# Altium footprint library FE Relays.PcbLib: 7 footprints
Each footprint in its own frame and in the unit in brackets; x right, y up, seen from the top. Pads: shape width x height; smd on the part's side, far side on the other; paste and mask are expansions set on the pad; w line width, h text height; cw(c..) or ccw(c..) is an arc to the next point about the centre after c.
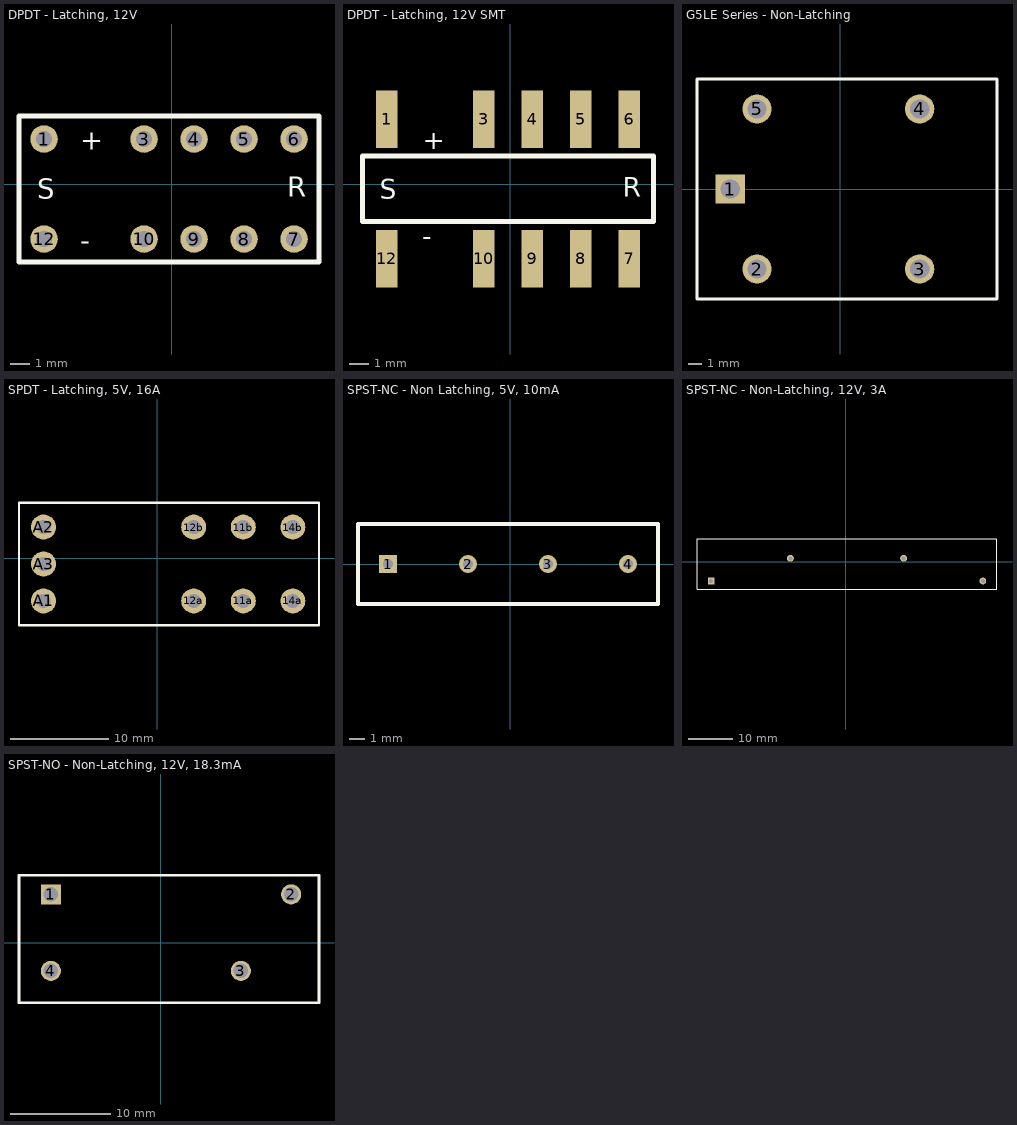
[diagram p0: the footprints below, top view; thin cyan lines are the x and y axes]

## DPDT - Latching, 12V [mil] "EC2-12TNU"
pads (10):
  round 55 hole 32: 1(-255,90) 3(-55,90) 4(45,90) 5(145,90) 6(245,90) 7(245,-110) 8(145,-110) 9(45,-110) 10(-55,-110) 12(-255,-110)
Top Overlay:
  lines w9.84: -305,-155.67 -305,135.67 295,135.67 295,-155.67 -305,-155.67
  text "S" at -268.78,-29.68 h40
  text "R" at 231.22,-25.75 h40
  text "+" at -182.17,68.74 h40
  text "-" at -182.17,-132.05 h40
3D body: height 370.08, standoff 0, extent -305,-155 295,135
3D body: height 100, standoff 0, extent -264.84,80.17 -245.15,99.84
3D body: height 100, standoff 0, extent -264.84,-119.82 -245.15,-100.16
3D body: height 100, standoff 0, extent -64.84,80.18 -45.15,99.84
3D body: height 100, standoff 0, extent -64.84,-119.82 -45.15,-100.16
3D body: height 100, standoff 0, extent 35.16,80.17 54.85,99.83
3D body: height 100, standoff 0, extent 35.16,-119.82 54.85,-100.16
3D body: height 100, standoff 0, extent 135.16,-119.82 154.85,-100.16
3D body: height 100, standoff 0, extent 135.16,80.18 154.85,99.84
3D body: height 100, standoff 0, extent 235.16,80.17 254.85,99.84
3D body: height 100, standoff 0, extent 235.16,-119.82 254.85,-100.16

## DPDT - Latching, 12V SMT [mm] "EE2-12TNU"
pads (10):
  rect 1.11x3 smd: 1(-6.477,3.391) 3(-1.397,3.391) 4(1.143,3.391) 5(3.683,3.391) 6(6.223,3.391) 7(6.223,-3.899) 8(3.683,-3.899) 9(1.143,-3.899) 10(-1.397,-3.899) 12(-6.477,-3.899)
Top Overlay:
  lines w0.25: -7.747,-1.956 7.493,-1.956 7.493,1.473 -7.747,1.473 -7.747,-1.956
  text "-" at -4.623,-3.2 h1.02
  text "+" at -4.597,1.829 h1.02
  text "R" at 5.873,-0.654 h1.02
  text "S" at -6.827,-0.754 h1.02
3D body: height 9.4, standoff 0, extent -7.747,-3.937 7.493,3.429

## G5LE Series - Non-Latching [mm]
pads (5):
  rect 2.2x2.2 hole 1.448: 1(-8.255,0)
  round 2.2 hole 1.448: 2(-6.255,-6) 3(5.945,-6) 4(5.945,6) 5(-6.255,6)
Top Overlay:
  lines w0.254: -10.755,-8.25 11.745,-8.25 11.745,8.25 -10.755,8.25 -10.755,-8.25
3D body: height 19, standoff 0, extent -10.755,-8.25 11.745,8.25

## SPDT - Latching, 5V, 16A [mil] "RT314F05"
height 618.11
pads (9):
  round 100 hole 57: 11a(344.21,-170.28) 11b(344.21,125) 12a(145.79,-170.28) 12b(145.79,125) 14a(542.64,-170.28) 14b(542.64,125) A1(-455,-170.28) A2(-455,125) A3(-455,-22.64)
Top Overlay:
  lines w10: -553.43,-268.7 647.36,-268.7 647.36,223.43 -553.43,223.43 -553.43,-268.7

## SPST-NC - Non Latching, 5V, 10mA [mil] "9001-05-02"
pads (4):
  rect 45x45 hole 25: 1(-305,0)
  round 45 hole 25: 2(-105,0) 3(95,0) 4(295,0)
Top Overlay:
  lines w10: -380,-100 370,-100 370,100 -380,100 -380,-100

## SPST-NC - Non-Latching, 12V, 3A [mil] "5502-12-1"
pads (4):
  rect 60x60 hole 35: 1(-1190,-170)
  round 60 hole 35: 2(-490,30) 3(510,30) 4(1210,-170)
Top Overlay:
  lines w10: -1315,-245 -1315,205 1335,205 1335,-245 -1315,-245

## SPST-NO - Non-Latching, 12V, 18.3mA [mil] "G6RL-1A DC12"
height 484.25
pads (4):
  rect 78.74x78.74 hole 57: 1(-430,190)
  round 78.74 hole 57: 2(510.94,190) 3(314.09,-110) 4(-430,-110)
Top Overlay:
  lines w10: -555,-235 620,-235 620,265 -555,265 -555,-235